# EAGLE library part PH8-2 (library receiver_2v0)
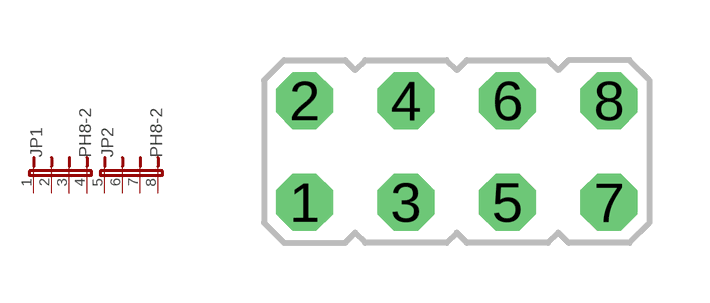
[diagram p12: symbol with the pads of PH8-2; footprint PH8-2]

Designator prefix J; gates P1=PH4 P2=PH4

## PH8-2  [PH8-2]
1  P1:1  pas
2  P1:2  pas
3  P1:3  pas
4  P1:4  pas
5  P2:1  pas
6  P2:2  pas
7  P2:3  pas
8  P2:4  pas

## Footprint PH8-2 (pad centres in mm)
drill 0.914 octagon: 1 -3.81,-1.27; 2 -3.81,1.27; 3 -1.27,-1.27; 4 -1.27,1.27; 5 1.27,-1.27; 6 1.27,1.27; 7 3.81,-1.27; 8 3.81,1.27